# Altium schematic symbol library CD4013BE.SchLib: 1 symbol
Pins are listed as number, name and electrical type; pins without a type are passive.

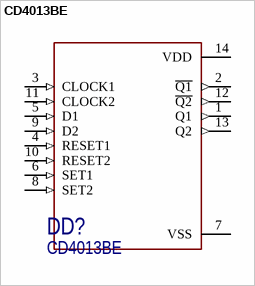
[diagram p0: symbol CD4013BE]

## CD4013BE
designator DD?
Два триггера D-типа
pins: 1 Q1 (out), 2 ~{Q1} (out), 3 CLOCK1 (in), 4 RESET1 (in), 5 D1 (in), 6 SET1 (in), 7 VSS (power), 8 SET2 (in), 9 D2 (in), 10 RESET2 (in), 11 CLOCK2 (in), 12 ~{Q2} (out), 13 Q2 (out), 14 VDD (power)